# Altium schematic symbol library 整流桥.SchLib: 13 symbols
Pins are listed as number, name and electrical type; pins without a type are passive.

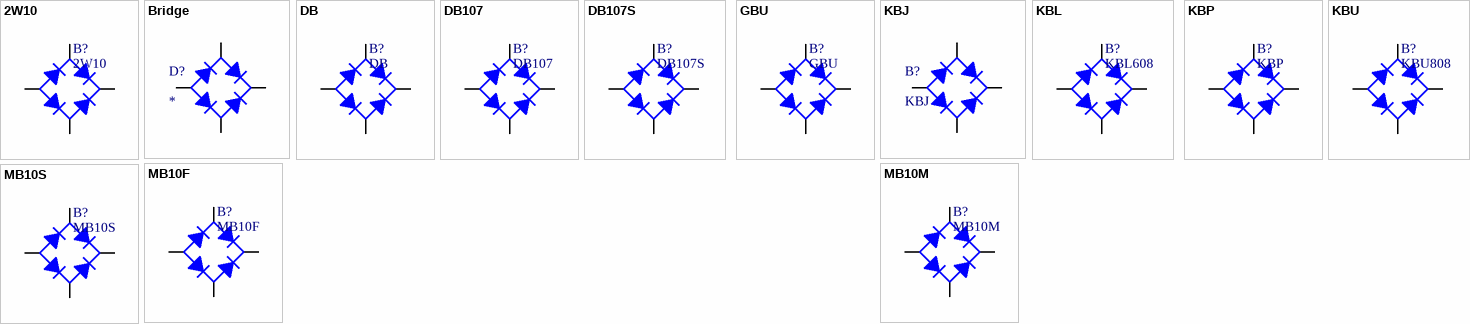
[diagram p0: symbols 2W10 to MB10S]

## 2W10
designator B?
1KV/2A整流桥; 版权归属: 源创客; BOM名称: 1KV/2A整流桥; 学习资源: www.ooocke.com
footprint RB-20 (8.9*3.5mm(直径，高))
pins: AC1, AC2, DC+, DC-

## Bridge
designator D?
footprint br3
footprint BR8
footprint DB
footprint DBS
footprint GBP
footprint GBU
footprint KBP
footprint MBF
footprint MBM
footprint MBS
footprint WOM
pins: AC1, AC2, DC+, DC-

## DB
designator B?
整流桥; 版权归属: 源创客; BOM名称: 整流桥; 学习资源: www.ooocke.com
footprint DB (8.5*7.6*3mm(长宽高))
footprint BR3 (18*7.1mm(宽高))
footprint BR8 (16*8mm(宽高))
footprint DBS (8.5*10.1*3mm(长宽高))
footprint GBP (14.2*2.9*10.5mm(长宽高))
footprint GBU (整流桥，脚距：5mm/200mil)
footprint KBP (14.7*4.8*12.2mm(长宽高))
footprint MBF (4.7*7*1.5mm(长宽高))
footprint MBM (4.8*5.2*2.5mm(长宽高))
footprint MBS (4.1*6.8*2.5mm(长宽高))
footprint RB-15 (8.9*3.5mm(直径，高))
footprint RB-20 (8.9*3.5mm(直径，高))
footprint WOM (8.1*5.1mm(直径，高))
pins: AC1, AC2, DC+, DC-

## DB107
designator B?
700V/1A整流桥; 版权归属: 源创客; BOM名称: 700V/1A整流桥; 学习资源: www.ooocke.com
footprint DB (8.5*7.6*3mm(长宽高))
pins: AC1, AC2, DC+, DC-

## DB107S
designator B?
700V/1A整流桥; 版权归属: 源创客; BOM名称: 700V/1A整流桥; 学习资源: www.ooocke.com
footprint DBS (8.5*10.1*3mm(长宽高))
pins: AC1, AC2, DC+, DC-

## GBU
designator B?
1KV/10A整流桥; 版权归属: 源创客; BOM名称: 1KV/10A整流桥; 学习资源: www.ooocke.com
footprint GBU (整流桥，脚距：5mm/200mil)
pins: AC1, AC2, DC+, DC-

## KBJ
designator B?
KBJ整流桥
footprint KBJ
pins: AC1, AC2, DC+, DC-

## KBL
designator B?, comment KBL608
600V/8A整流桥; BOM名称: 1KV/2A整流桥; 版权归属: 源创客; 学习资源: www.ooocke.com
footprint KBL (19*6.25*15.7mm(长宽高))
pins: AC1, AC2, DC+, DC-

## KBP
designator B?
1KV/2A整流桥; 版权归属: 源创客; BOM名称: 1KV/2A整流桥; 学习资源: www.ooocke.com
footprint KBP (14.7*4.8*12.2mm(长宽高))
pins: AC1, AC2, DC+, DC-

## KBU
designator B?, comment KBU808
800V/8A整流桥; BOM名称: 1KV/2A整流桥; 版权归属: 源创客; 学习资源: www.ooocke.com
footprint KBU (23*6.6*19.1mm(长宽高))
pins: AC1, AC2, DC+, DC-

## MB10F
designator B?
1KV/0.8A整流桥; 版权归属: 源创客; BOM名称: 1KV/0.8A整流桥; 学习资源: www.ooocke.com
footprint MBF (4.7*7*1.5mm(长宽高))
pins: AC1, AC2, DC+, DC-

## MB10M
designator B?
1KV/0.8A整流桥; 版权归属: 源创客; BOM名称: 1KV/0.8A整流桥; 学习资源: www.ooocke.com
footprint MBM (4.8*5.2*2.5mm(长宽高))
pins: AC1, AC2, DC+, DC-

## MB10S
designator B?
1KV/0.8A整流桥; 版权归属: 源创客; BOM名称: 1KV/0.8A整流桥; 学习资源: www.ooocke.com
footprint MBS (4.1*6.8*2.5mm(长宽高))
pins: AC1, AC2, DC+, DC-